# Altium footprint library CT_V00.PcbLib: 22 footprints (part 2 of 2)
Each footprint in its own frame and in the unit in brackets; x right, y up, seen from the top. Pads: shape width x height; smd on the part's side, far side on the other; paste and mask are expansions set on the pad; w line width, h text height; cw(c..) or ccw(c..) is an arc to the next point about the centre after c.
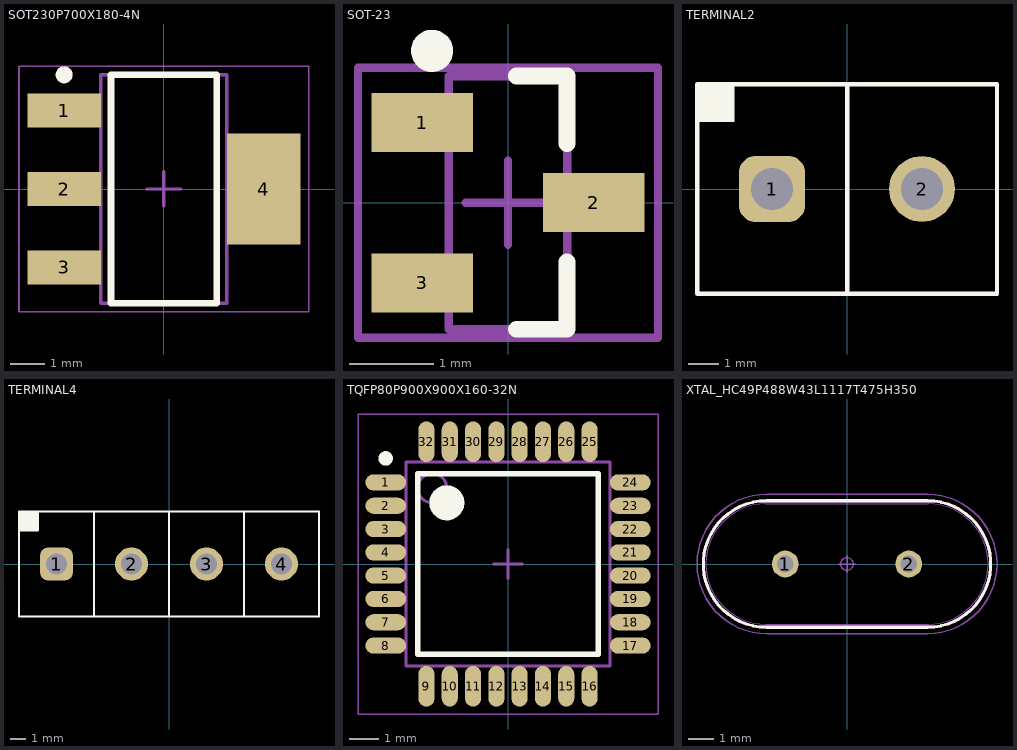
[diagram p1: the footprints below, top view; thin cyan lines are the x and y axes]

## SOT230P700X180-4N [mm] "SOT223, 4-Leads, Body 6,50x7,00mm (avg), Pitch 2,30mm, IPC Medium Density"
height 1.8
pads (4):
  rect 2.15x1 smd: 1(-2.925,2.3) 2(-2.925,0) 3(-2.925,-2.3)
  rect 2.15x3.25 smd: 4(2.925,0)
Top Overlay:
  circle w0.25: c-2.925,3.35 r0.125
  lines w0.2: -1.55,-3.35 -1.55,3.35 1.55,3.35 1.55,-3.35 -1.55,-3.35
Mechanical 13:
  lines w0.1: -1.85,-3.35 -1.85,3.35 1.85,3.35 1.85,-3.35 -1.85,-3.35
Mechanical 15:
  lines w0.05: -4.25,-3.6 -4.25,3.6 4.25,3.6 4.25,-3.6 -4.25,-3.6
  lines w0.1: -0.5,0 0.5,0 ; 0,-0.5 0,0.5
3D body: height 1.8, standoff 0.02, extent -1.85,-3.35 1.85,3.35

## SOT-23 [mm] "SOT23, 3-Leads, Body 2.9x1.3mm, Pitch 0.95mm, Lead Span 2.5mm, IPC High Density"
height 1.1
pads (3):
  rect 1.2x0.7 smd: 1(-1.016,0.95) 2(1.016,0) 3(-1.016,-0.95)
Top Overlay:
  circle w0.25: c-0.9,1.8 r0.125
  lines w0.2: 0.1,-1.5 0.7,-1.5 0.7,-0.7 ; 0.1,1.5 0.7,1.5 0.7,0.7
Mechanical 13:
  lines w0.1: -0.7,-1.5 0.7,-1.5 0.7,1.5 -0.7,1.5 -0.7,-1.5
Mechanical 15:
  lines w0.1: -0.5,0 0.5,0 ; 0,-0.5 0,0.5 ; -1.778,-1.6 1.778,-1.6 1.778,1.6 -1.778,1.6 -1.778,-1.6
3D body: height 1.1, standoff 0, extent -0.7,-1.5 0.7,1.5

## TERMINAL2 [mm]
pads (2):
  rrect50% 2.2x2.2 hole 1.4: 1(-2.5,0)
  round 2.2 hole 1.4: 2(2.5,0)
Top Overlay:
  region: -5,2.25 -3.75,2.25 -3.75,3.5 -5,3.5
  lines w0.15: 0,-3.5 0,3.5 ; -5,-3.5 5,-3.5 5,3.5 -5,3.5 -5,-3.5

## TERMINAL4 [mm]
pads (4):
  rrect50% 2.2x2.2 hole 1.4: 1(-7.5,0)
  round 2.2 hole 1.4: 2(-2.5,0) 3(2.5,0) 4(7.5,0)
Top Overlay:
  region: -10,2.25 -8.75,2.25 -8.75,3.5 -10,3.5
  lines w0.15: -10,2.25 -8.75,2.25 -8.75,3.5 ; -5,-3.5 -5,3.5 ; 0,-3.5 0,3.5 ; 5,-3.5 5,3.5 ; -10,-3.5 10,-3.5 10,3.5 -10,3.5 -10,-3.5

## TQFP80P900X900X160-32N [mm] "TQFP, 32-Leads, Body 7,00x7,00mm, Pitch 0,80mm, IPC Medium Density"
height 1.6
pads (32):
  oval 1.4x0.55 smd: 1(-4.2,2.8) 2(-4.2,2) 3(-4.2,1.2) 4(-4.2,0.4) 5(-4.2,-0.4) 6(-4.2,-1.2) 7(-4.2,-2) 8(-4.2,-2.8) 17(4.2,-2.8) 18(4.2,-2) 19(4.2,-1.2) 20(4.2,-0.4) 21(4.2,0.4) 22(4.2,1.2) 23(4.2,2) 24(4.2,2.8)
  oval 0.55x1.4 smd: 9(-2.8,-4.2) 10(-2,-4.2) 11(-1.2,-4.2) 12(-0.4,-4.2) 13(0.4,-4.2) 14(1.2,-4.2) 15(2,-4.2) 16(2.8,-4.2) 25(2.8,4.2) 26(2,4.2) 27(1.2,4.2) 28(0.4,4.2) 29(-0.4,4.2) 30(-1.2,4.2) 31(-2,4.2) 32(-2.8,4.2)
Top Overlay:
  circle w0.25: c-4.2,3.625 r0.125
  circle w0.6: c-2.1,2.1 r0.3
  lines w0.2: -3.1,-3.1 -3.1,3.1 3.1,3.1 3.1,-3.1 -3.1,-3.1
Mechanical 13:
  circle w0.1: c-2.6,2.6 r0.5
  lines w0.1: -3.5,-3.5 -3.5,3.5 3.5,3.5 3.5,-3.5 -3.5,-3.5
Mechanical 15:
  lines w0.05: -5.15,-5.15 -5.15,5.15 5.15,5.15 5.15,-5.15 -5.15,-5.15
  lines w0.1: -0.5,0 0.5,0 ; 0,-0.5 0,0.5
3D body: height 1.6, standoff 0.05, extent -3.5,-3.5 3.5,3.5

## XTAL_HC49P488W43L1117T475H350 [mm] "Crystal, HC-49; 4.88 mm C X 0.43 mm W 11.175 mm L X 4.75 mm T X 3.50 mm H body"
height 3.5
pads (2):
  round 1.06 hole 0.66 paste-1.06: 1(-2.44,0) 2(2.44,0)
Top Overlay:
  lines w0.12: -3.18,-2.5 cw(c-3.18,0) -3.18,2.5 3.18,2.5 cw(c3.18,0) 3.18,-2.5 -3.18,-2.5
Mechanical 11:
  lines w0.12: -3.18,-2.5 cw(c-3.18,0) -3.18,2.5 3.18,2.5 cw(c3.18,0) 3.18,-2.5 -3.18,-2.5
Mechanical 12:
  circle w0.025: c-2.44,0 r0.23
  circle w0.025: c2.44,0 r0.23
  lines w0.025: -3.213,-2.375 cw(c-3.213,0) -3.213,2.375 3.213,2.375 cw(c3.213,0) 3.213,-2.375 -3.213,-2.375
Mechanical 15:
  circle w0.05: c0,0 r0.25
  lines w0.05: -0.35,0 0.35,0 ; 0,-0.35 0,0.35 ; -3.18,-2.75 cw(c-3.18,0) -3.18,2.75 3.18,2.75 cw(c3.18,0) 3.18,-2.75 -3.18,-2.75
Mechanical 16:
  text ".Designator" at 0,0 h1.2
3D body "XTAL_HC49P488W43L1117T475H350.STEP": height 3.5, standoff -2, extent -5.587,-2.375 5.587,2.375